# Altium footprint library UVM AERO BSPD2.PcbLib: 51 footprints (part 3 of 4)
Each footprint in its own frame and in the unit in brackets; x right, y up, seen from the top. Pads: shape width x height; smd on the part's side, far side on the other; paste and mask are expansions set on the pad; w line width, h text height; cw(c..) or ccw(c..) is an arc to the next point about the centre after c.
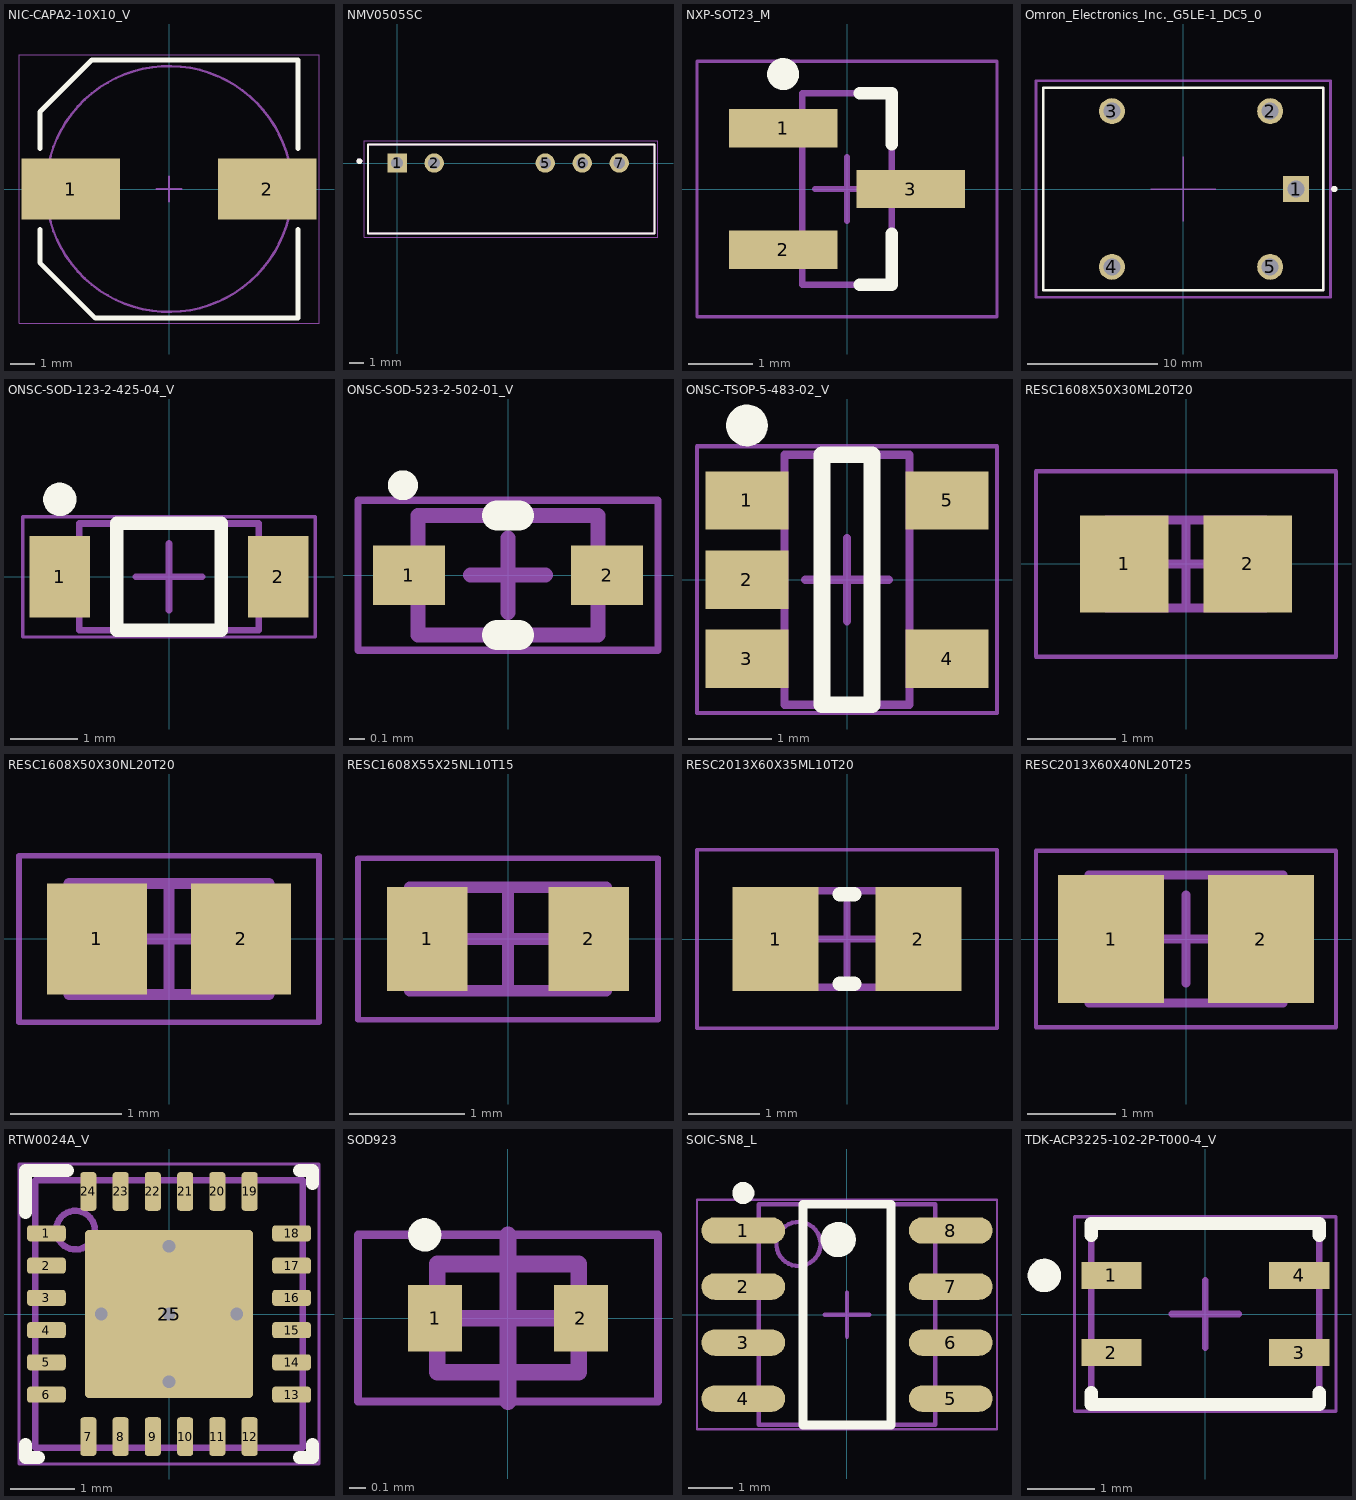
[diagram p2: the footprints below, top view; thin cyan lines are the x and y axes]

## NIC-CAPA2-10X10_V [mm] "Aluminum Electrolytic Capacitor, Diameter 10mm, Height 10.8mm, Pitch 8mm"
height 10.8
pads (2):
  rect 4x2.5 smd: 1(-4,0) 2(4,0)
Top Overlay:
  lines w0.2: -5.25,-1.65 -5.25,-3 -3,-5.25 5.25,-5.25 5.25,-1.65 ; -5.25,1.65 -5.25,3.132 -3.132,5.25 5.25,5.25 5.25,1.65
Mechanical 13:
  circle w0.1: c0,0 r5
Mechanical 15:
  lines w0.05: -6.1,-5.45 6.1,-5.45 6.1,5.45 -6.1,5.45 -6.1,-5.45
  lines w0.1: -0.5,0 0.5,0 ; 0,-0.5 0,0.5
3D body "CAPAE109103X105M.step": height 10.5, standoff 0, extent -5.45,-5.25 5.45,5.25

## NMV0505SC [mm]
pads (5):
  rect 1.328x1.328 hole 0.82: 1(0,0)
  round 1.328 hole 0.82: 2(2.54,0) 5(10.16,0) 6(12.7,0) 7(15.24,0)
Top Overlay:
  circle w0.2: c-2.59,0.13 r0.1
  lines w0.127: -2,-4.826 17.65,-4.826 17.65,1.27 -2,1.27 -2,-4.826
Top 3D Body:
  circle w0.2: c-2.59,0.13 r0.1
  circle w0.2: c-2.59,0.13 r0.1
  lines w0.127: -2,-4.826 17.65,-4.826 ; -2,-4.826 17.65,-4.826 ; -2,-4.826 -2,1.27 ; -2,-4.826 -2,1.27 ; -2,1.27 17.65,1.27 ; -2,1.27 17.65,1.27 ; 17.65,-4.826 17.65,1.27 ; 17.65,-4.826 17.65,1.27
Bottom Component Outline:
  lines w0.05: -2.25,-5.08 17.9,-5.08 17.9,1.52 -2.25,1.52 -2.25,-5.08
3D body "mps_dcdc_nmv_sc_a.step": height 10.04, standoff -4.06, extent -1.88,-4.77 17.62,1.25

## NXP-SOT23_M [mm] "SOT23, 3-Leads, Body 3x1.4mm, Pitch 0.95mm, IPC Low Density"
height 1.1
pads (3):
  rect 1.7x0.6 smd: 1(-1,0.95) 2(-1,-0.95) 3(1,0)
Top Overlay:
  circle w0.25: c-1,1.8 r0.125
  lines w0.2: 0.2,-1.5 0.7,-1.5 0.7,-0.7 ; 0.2,1.5 0.7,1.5 0.7,0.7
Mechanical 13:
  lines w0.1: -0.7,-1.5 0.7,-1.5 0.7,1.5 -0.7,1.5 -0.7,-1.5
Mechanical 15:
  lines w0.05: -2.35,-2 2.35,-2 2.35,2 -2.35,2 -2.35,-2
  lines w0.1: -0.5,0 0.5,0 ; 0,-0.5 0,0.5
3D body: height 1.1, standoff 0, extent -0.7,-1.5 0.7,1.5

## Omron_Electronics_Inc._G5LE-1_DC5_0 [mm]
pads (5):
  rect 2x2 hole 1.3 paste-1000: 1(8.7,0)
  round 2 hole 1.3 paste-1000: 2(6.7,6) 3(-5.5,6) 4(-5.5,-6) 5(6.7,-6)
Top Overlay:
  circle w0.25: c11.65,0 r0.125
  lines w0.2: -10.8,-7.8 -10.8,7.8 10.8,7.8 10.8,-7.8 -10.8,-7.8
Top 3D Body:
  lines w0.2: -11.35,-8.35 -11.35,8.35 11.35,8.35 11.35,-8.35 -11.35,-8.35
  text ".Designator" at 0,0 h1
Mechanical 12:
  lines w0.15: -10.8,-7.8 -10.8,7.8 10.8,7.8 10.8,-7.8 -10.8,-7.8
Mechanical 15:
  lines w0.1: -2.505,0 2.505,0 ; 0,-2.505 0,2.505
  lines w0.2: -11.35,-8.35 -11.35,8.35 11.35,8.35 11.35,-8.35 -11.35,-8.35
3D body "3dmodel.step": height 0.25, standoff 0, extent -11.35,-8.35 11.35,8.35

## ONSC-SOD-123-2-425-04_V [mm] "SOD, 2-Leads, Body 2.69x1.6mm"
height 1.35
pads (2):
  rect 0.91x1.22 smd: 1(-1.635,0) 2(1.635,0)
Top Overlay:
  circle w0.25: c-1.635,1.16 r0.125
  lines w0.2: -0.78,-0.8 -0.78,0.8 0.78,0.8 0.78,-0.8 -0.78,-0.8
Mechanical 13:
  lines w0.1: -1.345,-0.8 -1.345,0.8 1.345,0.8 1.345,-0.8 -1.345,-0.8
Mechanical 15:
  lines w0.05: -2.19,-0.9 -2.19,0.9 2.19,0.9 2.19,-0.9 -2.19,-0.9
  lines w0.1: -0.5,0 0.5,0 ; 0,-0.5 0,0.5
3D body: height 1.35, standoff 0, extent -1.345,-0.8 1.345,0.8

## ONSC-SOD-523-2-502-01_V [mm] "SOD, 2-Leads, Body 1.2x0.8mm"
height 0.7
pads (2):
  rect 0.48x0.4 smd: 1(-0.66,0) 2(0.66,0)
Top Overlay:
  circle w0.1: c-0.7,0.6 r0.05
  lines w0.2: -0.074,-0.4 0.074,-0.4 ; -0.074,0.4 0.074,0.4
Mechanical 13:
  lines w0.1: -0.6,-0.4 -0.6,0.4 0.6,0.4 0.6,-0.4 -0.6,-0.4
Mechanical 15:
  lines w0.05: -1,-0.5 -1,0.5 1,0.5 1,-0.5 -1,-0.5
  lines w0.1: -0.25,0 0.25,0 ; 0,-0.25 0,0.25
3D body: height 0.7, standoff 0, extent -0.6,-0.4 0.6,0.4

## ONSC-TSOP-5-483-02_V [mm] "SOP, 5-Leads, Body 3x1.5mm, Pitch 0.95mm"
height 1.1
pads (5):
  rect 1x0.7 smd: 1(-1.2,0.95) 2(-1.2,0) 3(-1.2,-0.95) 4(1.2,-0.95) 5(1.2,0.95)
Top Overlay:
  circle w0.25: c-1.2,1.85 r0.125
  lines w0.2: -0.3,-1.5 -0.3,1.5 0.3,1.5 0.3,-1.5 -0.3,-1.5
Mechanical 13:
  lines w0.1: -0.75,-1.5 -0.75,1.5 0.75,1.5 0.75,-1.5 -0.75,-1.5
Mechanical 15:
  lines w0.05: -1.8,-1.6 -1.8,1.6 1.8,1.6 1.8,-1.6 -1.8,-1.6
  lines w0.1: -0.5,0 0.5,0 ; 0,-0.5 0,0.5
3D body: height 1.1, standoff 0.01, extent -0.75,-1.5 0.75,1.5

## RESC1608X50X30ML20T20 [mm] "Chip Resistor, 2-Leads, Body 1.60x0.80mm, IPC Low Density"
height 0.5
pads (2):
  rect 1x1.1 smd: 1(-0.7,0) 2(0.7,0)
Mechanical 13:
  lines w0.1: -0.9,-0.5 -0.9,0.5 0.9,0.5 0.9,-0.5 -0.9,-0.5
Mechanical 15:
  lines w0.05: -1.7,-1.05 -1.7,1.05 1.7,1.05 1.7,-1.05 -1.7,-1.05
  lines w0.1: -0.5,0 0.5,0 ; 0,-0.5 0,0.5
3D body: height 0.5, standoff 0, extent -0.6,-0.5 0.6,0.5
3D body: height 0.5, standoff 0, extent -0.9,-0.5 -0.6,0.5
3D body: height 0.5, standoff 0, extent 0.6,-0.5 0.9,0.5

## RESC1608X50X30NL20T20 [mm] "Chip Resistor, 2-Leads, Body 1.60x0.80mm, IPC Medium Density"
height 0.5
pads (2):
  rect 0.9x1 smd: 1(-0.65,0) 2(0.65,0)
Mechanical 13:
  lines w0.1: -0.9,-0.5 -0.9,0.5 0.9,0.5 0.9,-0.5 -0.9,-0.5
Mechanical 15:
  lines w0.05: -1.35,-0.75 1.35,-0.75 1.35,0.75 -1.35,0.75 -1.35,-0.75
  lines w0.1: -0.5,0 0.5,0 ; 0,-0.5 0,0.5
3D body: height 0.5, standoff 0, extent -0.6,-0.5 0.6,0.5
3D body: height 0.5, standoff 0, extent 0.6,-0.5 0.9,0.5
3D body: height 0.5, standoff 0, extent -0.9,-0.5 -0.6,0.5

## RESC1608X55X25NL10T15 [mm] "Chip Resistor, 2-Leads, Body 1.60x0.80mm, IPC Medium Density"
height 0.55
pads (2):
  rect 0.7x0.9 smd: 1(-0.7,0) 2(0.7,0)
Mechanical 13:
  lines w0.1: -0.85,-0.45 -0.85,0.45 0.85,0.45 0.85,-0.45 -0.85,-0.45
Mechanical 15:
  lines w0.05: -1.3,-0.7 1.3,-0.7 1.3,0.7 -1.3,0.7 -1.3,-0.7
  lines w0.1: -0.45,0 0.45,0 ; 0,-0.45 0,0.45
3D body: height 0.55, standoff 0, extent 0.6,-0.45 0.85,0.45
3D body: height 0.55, standoff 0, extent -0.6,-0.45 0.6,0.45
3D body: height 0.55, standoff 0, extent -0.85,-0.45 -0.6,0.45

## RESC2013X60X35ML10T20 [mm] "Chip Resistor, 2-Leads, Body 2.00x1.25mm, IPC Low Density"
height 0.6
pads (2):
  rect 1.2x1.45 smd: 1(-1,0) 2(1,0)
Top Overlay:
  lines w0.2: -0.1,-0.625 0.1,-0.625 ; -0.1,0.625 0.1,0.625
Mechanical 13:
  lines w0.1: -1.05,-0.675 -1.05,0.675 1.05,0.675 1.05,-0.675 -1.05,-0.675
Mechanical 15:
  lines w0.05: -2.1,-1.25 -2.1,1.25 2.1,1.25 2.1,-1.25 -2.1,-1.25
  lines w0.1: -0.5,0 0.5,0 ; 0,-0.5 0,0.5
3D body: height 0.6, standoff 0, extent -1.05,-0.675 -0.7,0.675
3D body: height 0.6, standoff 0, extent -0.7,-0.675 0.7,0.675
3D body: height 0.6, standoff 0, extent 0.7,-0.675 1.05,0.675

## RESC2013X60X40NL20T25 [mm] "Chip Resistor, 2-Leads, Body 2.00x1.25mm, IPC Medium Density"
height 0.6
pads (2):
  rect 1.2x1.45 smd: 1(-0.85,0) 2(0.85,0)
Mechanical 13:
  lines w0.1: -1.1,-0.725 1.1,-0.725 1.1,0.725 -1.1,0.725 -1.1,-0.725
Mechanical 15:
  lines w0.05: -1.7,-1 -1.7,1 1.7,1 1.7,-1 -1.7,-1
  lines w0.1: -0.5,0 0.5,0 ; 0,-0.5 0,0.5
3D body: height 0.6, standoff 0, extent -1.1,-0.725 -0.7,0.725
3D body: height 0.6, standoff 0, extent -0.7,-0.725 0.7,0.725
3D body: height 0.6, standoff 0, extent 0.7,-0.725 1.1,0.725

## RTW0024A_V [mm] "QFN, 24-Leads, Body 4x4mm, Pitch 0.5mm, Thermal Pad 2.6x2.6mm, TI Recommended"
height 0.8
pads (25):
  rrect40% 0.6x0.25 smd: 1(-1.9,1.25) 2(-1.9,0.75) 3(-1.9,0.25) 4(-1.9,-0.25) 5(-1.9,-0.75) 6(-1.9,-1.25) 13(1.9,-1.25) 14(1.9,-0.75) 15(1.9,-0.25) 16(1.9,0.25) 17(1.9,0.75) 18(1.9,1.25)
  rrect40% 0.25x0.6 smd: 7(-1.25,-1.9) 8(-0.75,-1.9) 9(-0.25,-1.9) 10(0.25,-1.9) 11(0.75,-1.9) 12(1.25,-1.9) 19(1.25,1.9) 20(0.75,1.9) 21(0.25,1.9) 22(-0.25,1.9) 23(-0.75,1.9) 24(-1.25,1.9)
  rrect4% 2.6x2.6 smd paste-1.3: 25(0,0)
via 0,-1.05 diameter 0.5 hole 0.2
via -1.05,0 diameter 0.5 hole 0.2
via 0,0 diameter 0.5 hole 0.2
via 0,1.05 diameter 0.5 hole 0.2
via 1.05,0 diameter 0.5 hole 0.2
Top Overlay:
  lines w0.2: -2.225,-2.025 -2.225,-2.225 -2.025,-2.225 ; -2.225,1.575 -2.225,2.225 -1.575,2.225 ; 2.025,-2.225 2.225,-2.225 2.225,-2.025 ; 2.025,2.225 2.225,2.225 2.225,2.025
Top Paste:
  region: -0.1,-0.1 -1.248,-0.1 -1.248,-1.248 -0.1,-1.248
  region: -0.1,1.248 -1.248,1.248 -1.248,0.1 -0.1,0.1
  rectangle: 0.1,-1.248 1.248,-0.1
  rectangle: 0.1,0.1 1.248,1.248
Mechanical 1:
  text ".Designator" at -1.854,-0.508 h0.9
Mechanical 13:
  circle w0.1: c-1.45,1.3 r0.3
  lines w0.1: -2.075,-2.075 -2.075,2.075 2.075,2.075 2.075,-2.075 -2.075,-2.075
Mechanical 15:
  lines w0.05: -2.325,-2.325 -2.325,2.325 2.325,2.325 2.325,-2.325 -2.325,-2.325
  lines w0.1: -0.5,0 0.5,0 ; 0,-0.5 0,0.5
3D body "RTW0024A.stp": height 0.8, standoff 0, extent -2,-2 2,2

## SOD923 [mm] "SOD923 - 1-AH1A"
height 0.45
pads (2):
  rect 0.325x0.4 smd: 1(-0.437,0) 2(0.437,0)
Top Overlay:
  circle w0.1: c-0.5,0.5 r0.05
Top Courtyard:
  lines w0.05: -0.9,-0.5 -0.9,0.5 0.9,0.5 0.9,-0.5 -0.9,-0.5
  lines w0.1: -0.5,0 0.5,0 ; 0,-0.5 0,0.5
Top Assembly:
  lines w0.1: -0.425,-0.325 -0.425,0.325 0.425,0.325 0.425,-0.325 -0.425,-0.325
3D body "SOD923.step": height 0.45, standoff 0, extent -0.5,-0.325 0.5,0.325

## SOIC-SN8_L [mm] "SOIC, 8-Leads, Body 4.9x3.9mm, Pitch 1.27mm, IPC High Density"
height 1.75
pads (8):
  oval 1.9x0.6 smd: 1(-2.35,1.905) 2(-2.35,0.635) 3(-2.35,-0.635) 4(-2.35,-1.905) 5(2.35,-1.905) 6(2.35,-0.635) 7(2.35,0.635) 8(2.35,1.905)
Top Overlay:
  circle w0.4: c-0.2,1.7 r0.2
  circle w0.25: c-2.35,2.755 r0.125
  lines w0.2: -1,-2.5 -1,2.5 1,2.5 1,-2.5 -1,-2.5
Mechanical 13:
  circle w0.1: c-1.1,1.6 r0.5
  lines w0.1: -2,-2.5 2,-2.5 2,2.5 -2,2.5 -2,-2.5
Mechanical 15:
  lines w0.05: -3.4,-2.6 3.4,-2.6 3.4,2.6 -3.4,2.6 -3.4,-2.6
  lines w0.1: -0.5,0 0.5,0 ; 0,-0.5 0,0.5
3D body: height 1.75, standoff 0.1, extent -2,-2.5 2,2.5

## TDK-ACP3225-102-2P-T000-4_V [mm] "SMD, 4-Leads, Body 3.4x2.7mm"
height 2
pads (4):
  rect 0.9x0.4 smd: 1(-1.4,0.575) 2(-1.4,-0.575) 3(1.4,-0.575) 4(1.4,0.575)
Top Overlay:
  circle w0.25: c-2.4,0.575 r0.125
  lines w0.2: -1.7,-1.175 -1.7,-1.35 1.7,-1.35 1.7,-1.175 ; -1.7,1.175 -1.7,1.35 1.7,1.35 1.7,1.175
Mechanical 13:
  lines w0.1: -1.7,-1.35 -1.7,1.35 1.7,1.35 1.7,-1.35 -1.7,-1.35
Mechanical 15:
  lines w0.05: -1.95,-1.45 1.95,-1.45 1.95,1.45 -1.95,1.45 -1.95,-1.45
  lines w0.1: -0.5,0 0.5,0 ; 0,-0.5 0,0.5
3D body "acp3225.step": height 1.92, standoff 0.02, extent -1.599,-1.257 1.601,1.243